# EAGLE library part ADUM3221ARZ (library ADUM3221ARZ)
Analog Devices ADUM3221ARZ PCB SMT Digital Isolator, 2500 V, 8-Pin SOIC N Source: Datasheet <https://www.analog.com/media/en/technical-documentation/data-sheets/ADuM3220_3221.pdf>
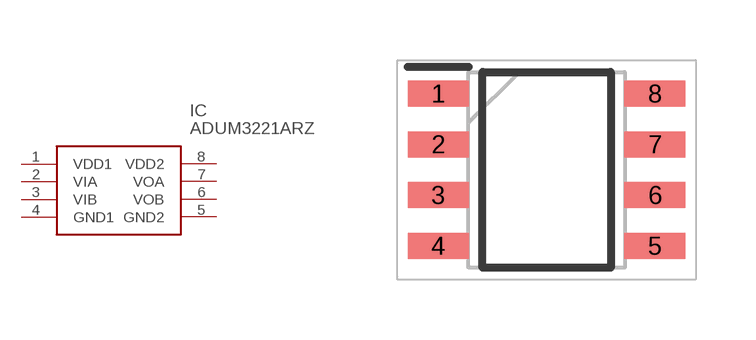
[diagram p0: symbol with the pads of SOIC127P600X175-8N; footprint SOIC127P600X175-8N]

Designator prefix IC

## ADUM3221ARZ (Arrow_Part_Number: ADUM3221ARZ; Arrow_Price-Stock: https://www.arrow.com/en/products/adum3221arz/analog-devices?region=nac; Description: Analog Devices ADUM3221ARZ PCB SMT Digital Isolator, 2500 V, 8-Pin SOIC N; Height: 1.75mm; Manufacturer_Name: Analog Devices; Manufacturer_Part_Number: ADUM3221ARZ; Mouser_Part_Number: 584-ADUM3221ARZ; Mouser_Price-Stock: https://www.mouser.co.uk/ProductDetail/Analog-Devices/ADUM3221ARZ?qs=WIvQP4zGanj4w8f7RObJXQ%3D%3D)  [SOIC127P600X175-8N]
1  VDD1
2  VIA
3  VIB
4  GND1
5  GND2
6  VOB
7  VOA
8  VDD2

## Footprint SOIC127P600X175-8N (pad centres in mm)
8 LEAD (SOIC_N)
smd 1.525 x 0.65: 1 -2.712,1.905; 2 -2.712,0.635; 3 -2.712,-0.635; 4 -2.712,-1.905; 5 2.712,-1.905; 6 2.712,-0.635; 7 2.712,0.635; 8 2.712,1.905